# Altium footprint library Connectors Interface USB.PcbLib: 2 footprints
Each footprint in its own frame and in the unit in brackets; x right, y up, seen from the top. Pads: shape width x height; smd on the part's side, far side on the other; paste and mask are expansions set on the pad; w line width, h text height; cw(c..) or ccw(c..) is an arc to the next point about the centre after c.
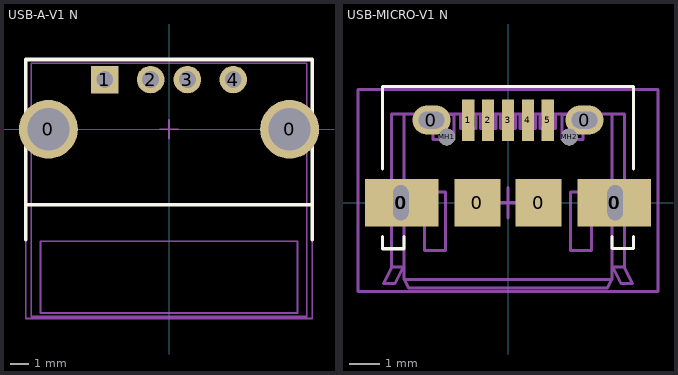
[diagram p0: the footprints below, top view; thin cyan lines are the x and y axes]

## USB-A-V1 N [mm]
height 7
pads (6):
  round 3.2 hole 2.3: 0(-6.57,0) 0(6.57,0)
  rect 1.5x1.5 hole 0.92: 1(-3.5,2.71)
  round 1.5 hole 0.92: 2(-1,2.71) 3(1,2.71) 4(3.5,2.71)
Top Overlay:
  lines w0.2: -7.8,-6 -7.8,3.8 7.8,3.8 7.8,-6 ; -7.8,-4.1 7.8,-4.1
Top Package:
  circle w0.1: c6.6,0 r1
  circle w0.1: c3.49,2.76 r0.5
  circle w0.1: c0.99,2.76 r0.5
  circle w0.1: c-1.01,2.76 r0.5
  circle w0.1: c-3.51,2.76 r0.5
  circle w0.1: c-6.6,0 r1
  lines w0.1: -7.5,-10.2 7.5,-10.2 7.5,3.6 -7.5,3.6 -7.5,-10.2 ; -7,-10 7,-10 7,-6.1 -7,-6.1 -7,-10
Top Border:
  lines w0.1: -0.5,0 0.5,0 ; 0,-0.5 0,0.5 ; -7.8,-10.3 -7.8,3.8 7.8,3.8 7.8,-10.3 -7.8,-10.3
3D body "UE27AC54100.STEP": height 7.5, standoff -3.25, extent -7.424,-10.2 7.424,3.6

## USB-MICRO-V1 N [mm] "USB micro type B SMT N"
height 2.5
pads (15):
  oval 0.9x1.55 hole 0.5 slot 1.15 at 90 deg: 0(-3.5,0) 0(3.5,0)
  rect 2.4x1.55 smd: 0(-3.475,0) 0(3.475,0)
  oval 1.25x0.95 hole 0.55 slot 0.85 at 0 deg: 0(-2.5,2.7) 0(2.5,2.7)
  rect 1.5x1.55 smd: 0(-1,0) 0(1,0)
  rect 0.4x1.35 smd: 1(-1.3,2.7) 2(-0.65,2.7) 3(0,2.7) 4(0.65,2.7) 5(1.3,2.7)
  round 0.55 hole 0.55 unplated paste+0 mask+0: MH1(-2,2.15) MH2(2,2.15)
Top Overlay:
  lines w0.1: -4.1,-1.1 -4.1,-1.501 -3.4,-1.501 -3.4,-1.1 ; -4.1,1.1 -4.1,3.8 4.1,3.8 4.1,1.1 ; 3.4,-1.1 3.4,-1.5 4.1,-1.5 4.1,-1.1
Top Package:
  lines w0.1: -3.44,-2.13 -3.697,-2.644 -4.071,-2.644 -3.799,-2.099 ; -3.39,2.9 -3.39,-2.099 ; -1.55,2.889 -1.55,2.425 -1.05,2.425 -1.05,2.889 ; -0.9,2.889 -0.9,2.425 -0.4,2.425 -0.4,2.889 ; -0.25,2.889 -0.25,2.425 0.25,2.425 0.25,2.889 ; 0.4,2.889 0.4,2.425 0.9,2.425 0.9,2.889 ; 1.05,2.889 1.05,2.425 1.55,2.425 1.55,2.889 ; 3.39,2.9 3.39,-2.099 3.39,-2.508 ; -3.799,-2.099 -3.799,2.9 3.799,2.9 3.799,-2.099 ; -3.799,-2.099 -3.39,-2.099 ; -3.39,-2.508 3.39,-2.508 ; -3.39,-2.508 -3.254,-2.78 3.254,-2.78 3.39,-2.508 ; -3.39,-2.508 -3.39,-2.099 ; 3.799,-2.099 3.425,-2.099 3.697,-2.644 4.071,-2.644 3.799,-2.099 ; -3.625,-0.475 -3.625,0.5 -3.3,0.5 -3.3,-0.475 -3.625,-0.475 ; -2.925,2.65 -2.925,2.9 -2.075,2.9 -2.075,2.65 -2.925,2.65 ; -2.721,-1.555 -2.721,0.35 -2.04,0.35 -2.04,-1.555 -2.721,-1.555 ; -2.449,2.07 -2.449,2.886 -1.768,2.886 -1.768,2.07 -2.449,2.07 ; 1.77,2.07 2.451,2.07 2.451,2.886 1.77,2.886 1.77,2.07 ; 2.042,-1.555 2.723,-1.555 2.723,0.35 2.042,0.35 2.042,-1.555 ; 2.075,2.65 2.075,2.9 2.925,2.9 2.925,2.65 2.075,2.65 ; 3.3,-0.475 3.625,-0.475 3.625,0.5 3.3,0.5 3.3,-0.475
Top Border:
  lines w0.1: -0.5,0 0.5,0 ; 0,-0.5 0,0.5 ; -4.9,-2.9 -4.9,3.7 4.9,3.7 4.9,-2.9 -4.9,-2.9
3D body "MicroUSB-B_Molex_105017-0001.stp": height 2.73, standoff -0.58, extent -4.1,-2.515 4.1,2.915